# EAGLE library part TBL004-508-06BE-2GY (library Screwless Terminal 6-Pole)
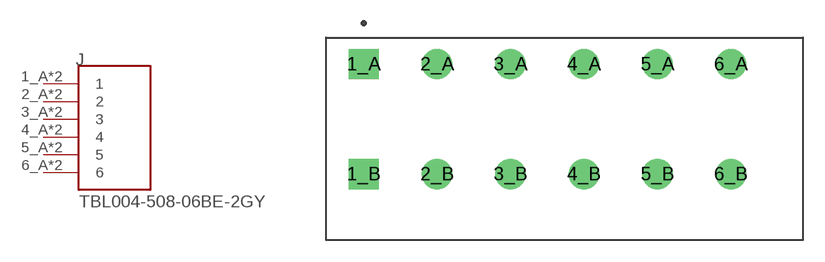
[diagram p0: symbol with the pads of CUI_TBL004-508-06BE-2GY; footprint CUI_TBL004-508-06BE-2GY]

Designator prefix J

## TBL004-508-06BE-2GY (MANUFACTURER: CUI; STANDARD: Manufacturer Recommendations)  [CUI_TBL004-508-06BE-2GY]
1_A  1  pas
1_B  1  pas
2_A  2  pas
2_B  2  pas
3_A  3  pas
3_B  3  pas
4_A  4  pas
4_B  4  pas
5_A  5  pas
5_B  5  pas
6_A  6  pas
6_B  6  pas

## Footprint CUI_TBL004-508-06BE-2GY (pad centres in mm)
drill 1.4 square: 1_A 0,0; 1_B 0,-7.62
drill 1.4: 2_A 5.08,0; 2_B 5.08,-7.62; 3_A 10.16,0; 3_B 10.16,-7.62; 4_A 15.24,0; 4_B 15.24,-7.62; 5_A 20.32,0; 5_B 20.32,-7.62; 6_A 25.4,0; 6_B 25.4,-7.62